# EAGLE library part 74LVC2G06GW,125 (library 74LVC2G06GW_125)
74LVC2G06 - Inverters with open-drain outputs@en-us Source: Datasheet <https://assets.nexperia.com/documents/data-sheet/74LVC2G06.pdf>
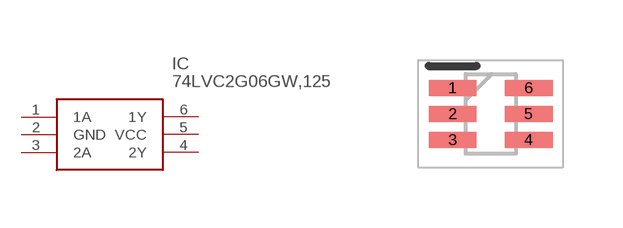
[diagram p0: symbol with the pads of SOT65P210X110-6N; footprint SOT65P210X110-6N]

Designator prefix IC

## 74LVC2G06GW,125 (Description: 74LVC2G06 - Inverters with open-drain outputs@en-us; Height: 1.1mm; Manufacturer_Name: Nexperia; Manufacturer_Part_Number: 74LVC2G06GW,125; Mouser_Part_Number: 771-LVC2G06GW125; Mouser_Price-Stock: https://www.mouser.co.uk/ProductDetail/Nexperia/74LVC2G06GW125?qs=me8TqzrmIYX9rpcZEPRR6g%3D%3D)  [SOT65P210X110-6N]
1  1A
2  GND
3  2A
4  2Y
5  VCC
6  1Y

## Footprint SOT65P210X110-6N (pad centres in mm)
SOT363-2 (TSSOP6)
smd 1.2 x 0.4: 1 -0.95,0.65; 2 -0.95,0; 3 -0.95,-0.65; 4 0.95,-0.65; 5 0.95,0; 6 0.95,0.65